# EAGLE library part 6PIN_MOLEX (library Solar)
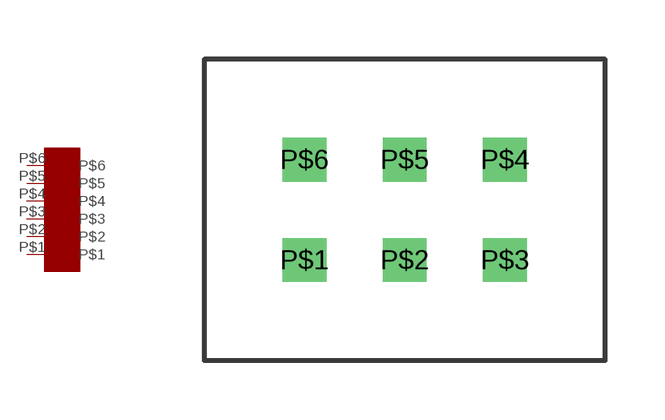
[diagram p0: symbol with the pads of 6PIN_MOLEX; footprint 6PIN_MOLEX]

Designator prefix -

## 6PIN_MOLEX  [6PIN_MOLEX]
P$1  P$1
P$2  P$2
P$3  P$3
P$4  P$4
P$5  P$5
P$6  P$6

## Footprint 6PIN_MOLEX (pad centres in mm)
drill 0.6 square: P$1 2.54,2.54; P$2 5.08,2.54; P$3 7.62,2.54; P$4 7.62,5.08; P$5 5.08,5.08; P$6 2.54,5.08